# Altium footprint library CRY_ABS07.PcbLib: 1 footprints
Each footprint in its own frame and in the unit in brackets; x right, y up, seen from the top. Pads: shape width x height; smd on the part's side, far side on the other; paste and mask are expansions set on the pad; w line width, h text height; cw(c..) or ccw(c..) is an arc to the next point about the centre after c.
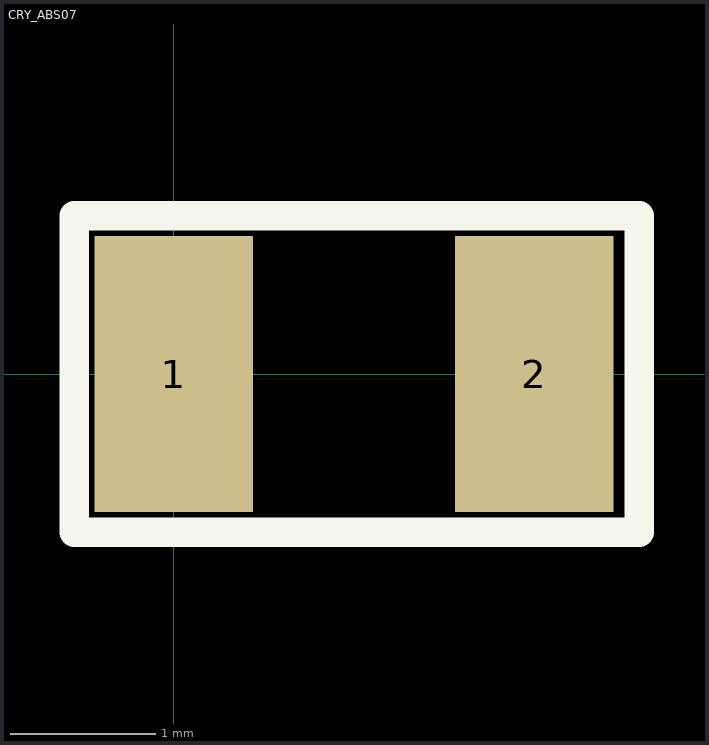
[diagram p0: the footprint, top view; thin cyan lines are the x and y axes]

## CRY_ABS07 [mil]
height 35
pads (2):
  rect 43x75 smd: 1(0,0) 2(98,0)
TopOverlay:
  lines w8: -27,-43 126.57,-43 126.57,43 -27,43 -27,-43
3D body: height 35, standoff 0, extent -13.39,-29.62 112.61,29.38